# Altium schematic symbol library Header IDC 6.SchLib: 1 symbol
Pins are listed as number, name and electrical type; pins without a type are passive.

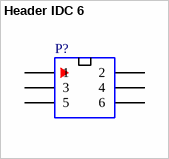
[diagram p0: symbol Header IDC 6]

## Header IDC 6
designator P?
Boxed/shrouded header, 2×3, 6-Pin (IDC)
pins: 1, 2, 3, 4, 5, 6